# Altium footprint library Resistor_SMD.PcbLib: 67 footprints (part 5 of 5)
Each footprint in its own frame and in the unit in brackets; x right, y up, seen from the top. Pads: shape width x height; smd on the part's side, far side on the other; paste and mask are expansions set on the pad; w line width, h text height; cw(c..) or ccw(c..) is an arc to the next point about the centre after c.
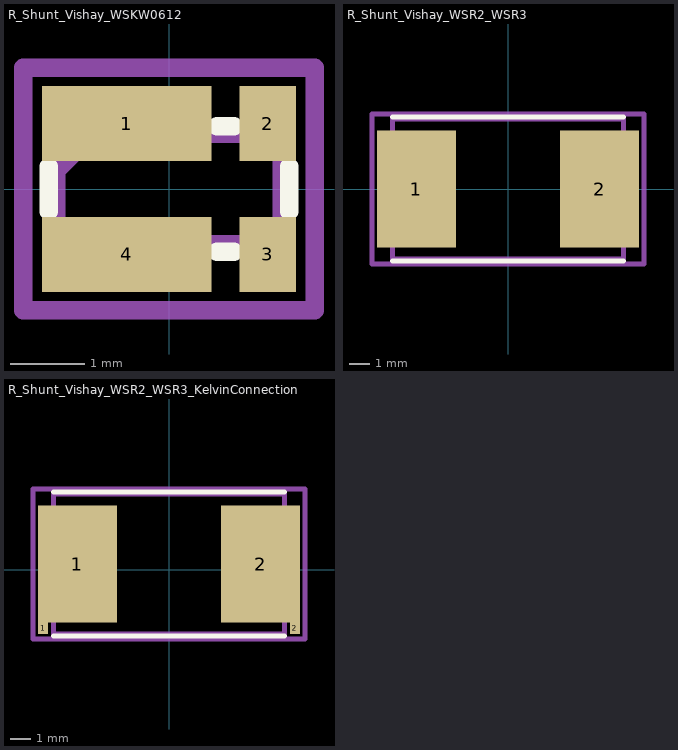
[diagram p4: the footprints below, top view; thin cyan lines are the x and y axes]

## R_Shunt_Vishay_WSKW0612 [mm]
pads (4):
  rect 2.287x1.01 smd: 1(-0.572,0.885) 4(-0.572,-0.885)
  rect 0.762x1.01 smd: 2(1.334,0.885) 3(1.334,-0.885)
F.SilkS:
  lines w0.254: -1.625,-0.3 -1.625,0.3 ; 0.65,-0.85 0.875,-0.85 ; 0.65,0.85 0.875,0.85 ; 1.625,-0.3 1.625,0.3
F.CrtYd:
  lines w0.254: -1.97,-1.64 -1.97,1.64 1.97,1.64 1.97,-1.64 -1.97,-1.64
F.Fab:
  lines w0.254: -1.525,-0.75 -1.525,0.25 -1.025,0.75 1.525,0.75 1.525,-0.75 -1.525,-0.75
  text "'.Designator'" at -2.048,-0.445 h0.5

## R_Shunt_Vishay_WSR2_WSR3 [mm]
pads (2):
  rect 3.94x5.84 smd: 1(-4.575,0) 2(4.575,0)
F.SilkS:
  lines w0.254: -5.78,-3.6 5.78,-3.6 ; -5.78,3.6 5.78,3.6
F.CrtYd:
  lines w0.254: -6.8,-3.74 -6.8,3.74 6.8,3.74 6.8,-3.74 -6.8,-3.74
F.Fab:
  lines w0.254: -5.78,-3.49 -5.78,3.49 5.78,3.49 5.78,-3.49 -5.78,-3.49
  text "'.Designator'" at -4.047,-0.84 h1

## R_Shunt_Vishay_WSR2_WSR3_KelvinConnection [mm]
pads (4):
  rect 0.51x0.6 smd: 1(-6.29,-2.91) 2(6.29,-2.91)
  rect 3.94x5.84 smd: 1(-4.575,0.29) 2(4.575,0.29)
F.SilkS:
  lines w0.254: -5.78,-3.31 5.78,-3.31 ; -5.78,3.89 5.78,3.89
F.CrtYd:
  lines w0.254: -6.8,-3.45 -6.8,4.03 6.8,4.03 6.8,-3.45 -6.8,-3.45
F.Fab:
  lines w0.254: -5.78,-3.2 -5.78,3.78 5.78,3.78 5.78,-3.2 -5.78,-3.2
  text "'.Designator'" at -4.047,-0.84 h1